# Altium footprint library CR2031-battery-holder.PcbLib: 1 footprints
Each footprint in its own frame and in the unit in brackets; x right, y up, seen from the top. Pads: shape width x height; smd on the part's side, far side on the other; paste and mask are expansions set on the pad; w line width, h text height; cw(c..) or ccw(c..) is an arc to the next point about the centre after c.
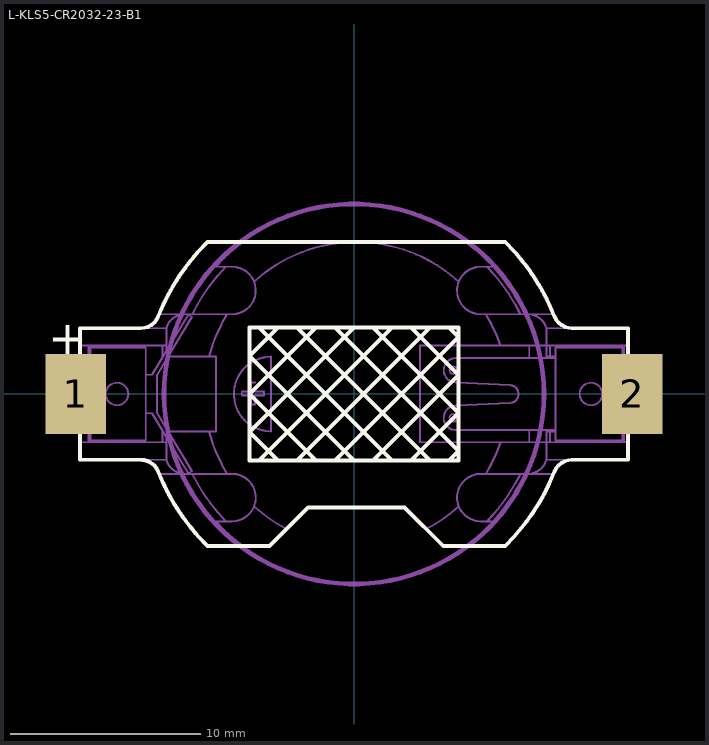
[diagram p0: the footprint, top view; thin cyan lines are the x and y axes]

## L-KLS5-CR2032-23-B1 [mm]
pads (2):
  rect 3.2x4.2 smd: 1(-14.65,0) 2(14.65,0)
Top Overlay:
  drawing of 220 lines, arcs and shapes, not listed
  text "+" at -16.1,2.1 h1.78
Mechanical 5:
  circle w0.25: c0,0 r10
Mechanical 7:
  drawing of 1332 lines, arcs and shapes, not listed
3D body "BS-2032-6-2 SMT 3D???.step": height 5.17, standoff -0.01, extent -15.7,-8 15.85,8